# EAGLE library part LM741 (library wb-opamps)
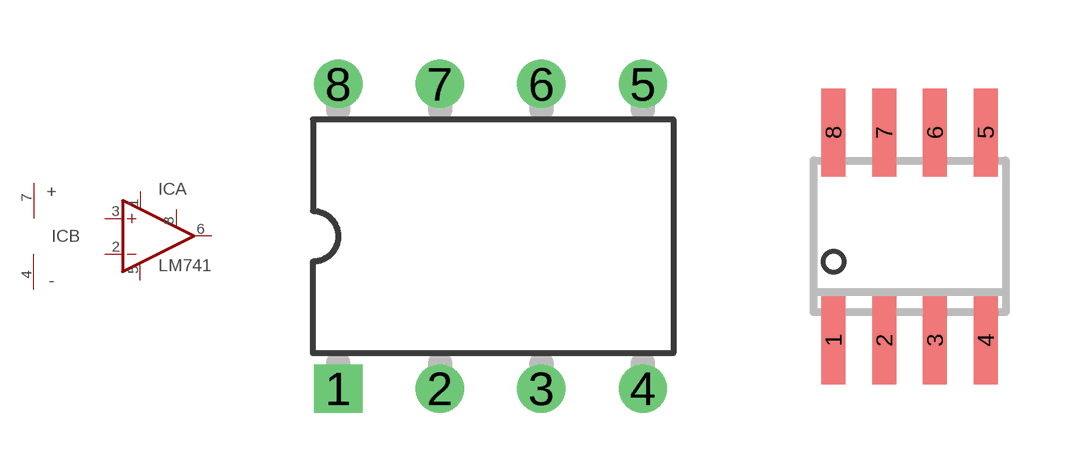
[diagram p11: symbol with the pads of DIL08; footprints DIL08, SO08]

Designator prefix IC; gates A=LM741 B=TYP-PWR

## LM741D  [DIL08]
1  A:NULL(1)  pas
2  A:INVERTINGA(-)  in
3  A:NON-INVERTING(+)  in
4  B:V-  pwr
5  A:NULL(5)  pas
6  A:OUT  out
7  B:V+  pwr
8  A:NC  nc

## LM741S  [SO08]
Pads as for DIL08

## Footprint DIL08 (pad centres in mm)
drill 0.7 square: 1 -3.81,-3.81
drill 0.7: 2 -1.27,-3.81; 3 1.27,-3.81; 4 3.81,-3.81; 5 3.81,3.81; 6 1.27,3.81; 7 -1.27,3.81; 8 -3.81,3.81

## Footprint SO08 (pad centres in mm)
smd 0.6 x 2.2: 1 -1.905,-2.6; 2 -0.635,-2.6; 3 0.635,-2.6; 4 1.905,-2.6; 5 1.905,2.6; 6 0.635,2.6; 7 -0.635,2.6; 8 -1.905,2.6